# Altium schematic symbol library Telit.SchLib: 3 symbols
Pins are listed as number, name and electrical type; pins without a type are passive.

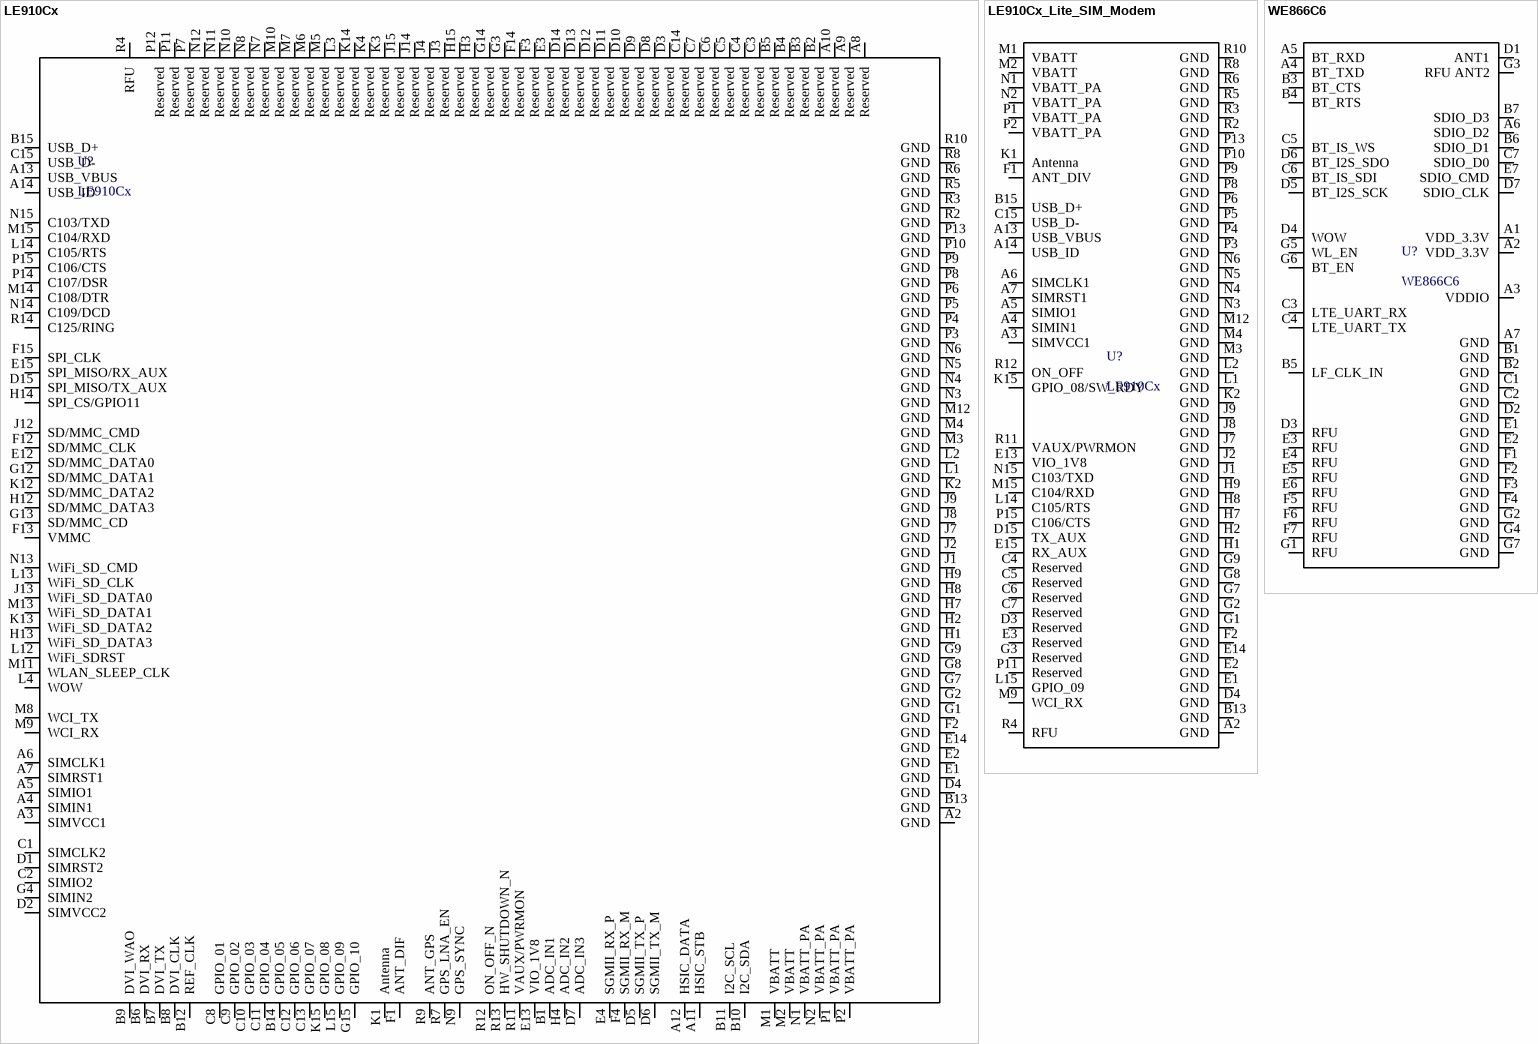
[diagram p0: symbols LE910Cx to WE866C6]

## LE910Cx
designator U?
LTE Cat.4 150/50 - Cat.1 10/5; Manufacturer: Telit; Part Number: *; Price 1: *; Price 100: *; Price 1000: *
footprint LE910Cx (LTE Cat.4 150/50 - Cat.1 10/5)
pins: A2 GND, A3 SIMVCC1, A4 SIMIN1, A5 SIMIO1, A6 SIMCLK1, A7 SIMRST1, A8 Reserved, A9 Reserved, A10 Reserved, A11 HSIC_STB, A12 HSIC_DATA, A13 USB_VBUS, A14 USB_ID, B1 ADC_IN1, B2 Reserved, B3 Reserved, B4 Reserved, B5 Reserved, B6 DVI_RX, B7 DVI_TX, B8 DVI_CLK, B9 DVI_WAO, B10 I2C_SDA, B11 I2C_SCL, B12 REF_CLK, B13 GND, B14 GPIO_05, B15 USB_D+, C1 SIMCLK2, C2 SIMIO2, C3 Reserved, C4 Reserved, C5 Reserved, C6 Reserved, C7 Reserved, C8 GPIO_01, C9 GPIO_02, C10 GPIO_03, C11 GPIO_04, C12 GPIO_06, C13 GPIO_07, C14 Reserved, C15 USB_D-, D1 SIMRST2, D2 SIMVCC2, D3 Reserved, D4 GND, D5 SGMII_TX_P, D6 SGMII_TX_M, D7 ADC_IN3, D8 Reserved, D9 Reserved, D10 Reserved, D11 Reserved, D12 Reserved, D13 Reserved, D14 Reserved, D15 SPI_MISO/TX_AUX, E1 GND, E2 GND, E3 Reserved, E4 SGMII_RX_P, E12 SD/MMC_DATA0, E13 VIO_1V8, E14 GND, E15 SPI_MISO/RX_AUX, F1 ANT_DIF, F2 GND, F3 Reserved, F4 SGMII_RX_M, F12 SD/MMC_CLK, F13 VMMC, F14 Reserved, F15 SPI_CLK, G1 GND, G2 GND, G3 Reserved, G4 SIMIN2, G7 GND, G8 GND, G9 GND, G12 SD/MMC_DATA1, G13 SD/MMC_CD, G14 Reserved, G15 GPIO_10, H1 GND, H2 GND, H3 Reserved, H4 ADC_IN2, H7 GND, H8 GND, H9 GND, H12 SD/MMC_DATA3, H13 WiFi_SD_DATA3, H14 SPI_CS/GPIO11, H15 Reserved, J1 GND, J2 GND, J3 Reserved, J4 Reserved, J7 GND, J8 GND, J9 GND, J12 SD/MMC_CMD, J13 WiFi_SD_DATA0, J14 Reserved, J15 Reserved, K1 Antenna, K2 GND, K3 Reserved, K4 Reserved, K12 SD/MMC_DATA2, K13 WiFi_SD_DATA2, K14 Reserved, K15 GPIO_08, L1 GND, L2 GND, L3 Reserved, L4 WOW, L12 WiFi_SDRST, L13 WiFi_SD_CLK, L14 C105/RTS, L15 GPIO_09, M1 VBATT, M2 VBATT, M3 GND, M4 GND, M5 Reserved, M6 Reserved, M7 Reserved, M8 WCI_TX, M9 WCI_RX, M10 Reserved, M11 WLAN_SLEEP_CLK, M12 GND, M13 WiFi_SD_DATA1, M14 C108/DTR, M15 C104/RXD, N1 VBATT_PA, N2 VBATT_PA, N3 GND, N4 GND, N5 GND, N6 GND, N7 Reserved, N8 Reserved, N9 GPS_SYNC, N10 Reserved, N11 Reserved, N12 Reserved, N13 WiFi_SD_CMD, N14 C109/DCD, N15 C103/TXD, P1 VBATT_PA, P2 VBATT_PA, P3 GND, P4 GND, P5 GND, P6 GND, P7 Reserved, P8 GND, P9 GND, P10 GND, P11 Reserved, P12 Reserved, P13 GND, P14 C107/DSR, P15 C106/CTS, R2 GND, R3 GND, R4 RFU, R5 GND, R6 GND, R7 GPS_LNA_EN, R8 GND, R9 ANT_GPS, R10 GND, R11 VAUX/PWRMON, R12 ON_OFF_N, R13 HW_SHUTDOWN_N, R14 C125/RING

## LE910Cx_Lite_SIM_Modem
designator U?, comment LE910Cx
LTE Cat.4 150/50 - Cat.1 10/5; Manufacturer: Telit; Part Number: *; Price 1: *; Price 100: *; Price 1000: *
footprint LE910Cx (LTE Cat.4 150/50 - Cat.1 10/5)
pins: A2 GND, A3 SIMVCC1, A4 SIMIN1, A5 SIMIO1, A6 SIMCLK1, A7 SIMRST1, A13 USB_VBUS, A14 USB_ID, B13 GND, B15 USB_D+, C4 Reserved, C5 Reserved, C6 Reserved, C7 Reserved, C15 USB_D-, D3 Reserved, D4 GND, D15 TX_AUX, E1 GND, E2 GND, E3 Reserved, E13 VIO_1V8, E14 GND, E15 RX_AUX, F1 ANT_DIV, F2 GND, G1 GND, G2 GND, G3 Reserved, G7 GND, G8 GND, G9 GND, H1 GND, H2 GND, H7 GND, H8 GND, H9 GND, J1 GND, J2 GND, J7 GND, J8 GND, J9 GND, K1 Antenna, K2 GND, K15 GPIO_08/SW_RDY, L1 GND, L2 GND, L14 C105/RTS, L15 GPIO_09, M1 VBATT, M2 VBATT, M3 GND, M4 GND, M9 WCI_RX, M12 GND, M15 C104/RXD, N1 VBATT_PA, N2 VBATT_PA, N3 GND, N4 GND, N5 GND, N6 GND, N15 C103/TXD, P1 VBATT_PA, P2 VBATT_PA, P3 GND, P4 GND, P5 GND, P6 GND, P8 GND, P9 GND, P10 GND, P11 Reserved, P13 GND, P15 C106/CTS, R2 GND, R3 GND, R4 RFU, R5 GND, R6 GND, R8 GND, R10 GND, R11 VAUX/PWRMON, R12 ON_OFF

## WE866C6
designator U?
Wi-Fi 802.11 ac (1 x 1) BT/BLE5; Manufacturer: Telit; Part Number: *; Price 1: *; Price 100: *; Price 1000: *
footprint WE866C6 (Wi-Fi 802.11 ac (1 x 1) BT/BLE5)
pins: A1 VDD_3.3V, A2 VDD_3.3V, A3 VDDIO, A4 BT_TXD, A5 BT_RXD, A6 SDIO_D2, A7 GND, B1 GND, B2 GND, B3 BT_CTS, B4 BT_RTS, B5 LF_CLK_IN, B6 SDIO_D1, B7 SDIO_D3, C1 GND, C2 GND, C3 LTE_UART_RX, C4 LTE_UART_TX, C5 BT_IS_WS, C6 BT_IS_SDI, C7 SDIO_D0, D1 ANT1, D2 GND, D3 RFU, D4 WOW, D5 BT_I2S_SCK, D6 BT_I2S_SDO, D7 SDIO_CLK, E1 GND, E2 GND, E3 RFU, E4 RFU, E5 RFU, E6 RFU, E7 SDIO_CMD, F1 GND, F2 GND, F3 GND, F4 GND, F5 RFU, F6 RFU, F7 RFU, G1 RFU, G2 GND, G3 RFU ANT2, G4 GND, G5 WL_EN, G6 BT_EN, G7 GND